# Altium schematic symbol library HEF4052B.SchLib: 1 symbol
Pins are listed as number, name and electrical type; pins without a type are passive.

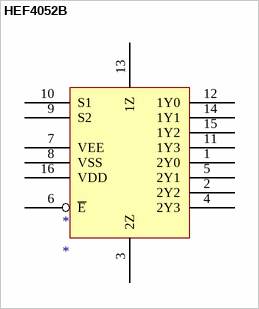
[diagram p0: symbol HEF4052B]

## HEF4052B
designator *
footprint SO16_M (SOIC, 16-Leads, Body 9.9x3.8mm, Pitch 1.27mm, IPC Low Density)
pins: 1 2Y0, 2 2Y2, 3 2Z, 4 2Y3, 5 2Y1, 6 ~{E}, 7 VEE, 8 VSS, 9 S2, 10 S1, 11 1Y3, 12 1Y0, 13 1Z, 14 1Y1, 15 1Y2, 16 VDD